# Altium footprint library XTAL-SMD2520.PcbLib: 1 footprints
Each footprint in its own frame and in the unit in brackets; x right, y up, seen from the top. Pads: shape width x height; smd on the part's side, far side on the other; paste and mask are expansions set on the pad; w line width, h text height; cw(c..) or ccw(c..) is an arc to the next point about the centre after c.
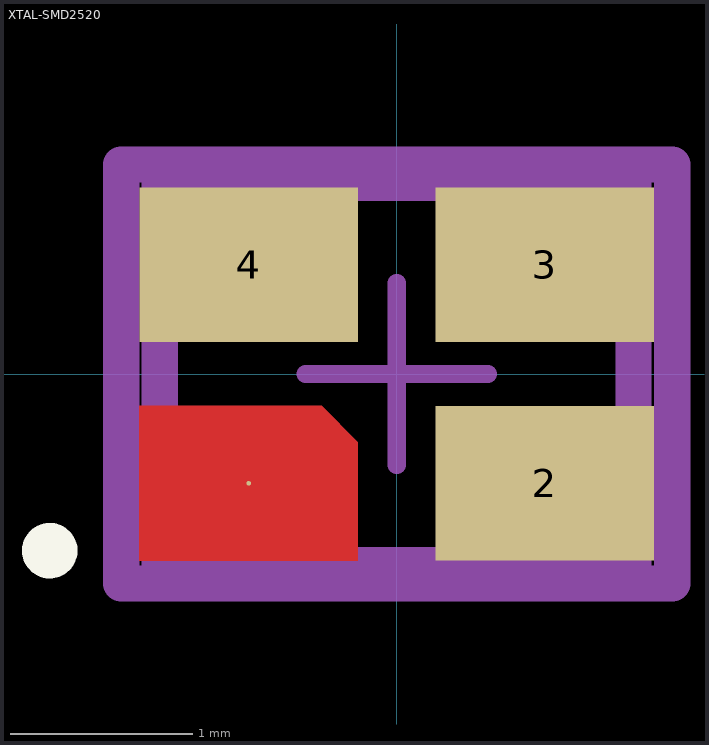
[diagram p0: the footprint, top view; thin cyan lines are the x and y axes]

## XTAL-SMD2520 [mm]
pads (4):
  round 0.025 smd paste+0 mask+0: 1(-0.813,-0.6)
  rect 1.2x0.85 smd paste+0 mask+0: 2(0.813,-0.6) 3(0.813,0.6) 4(-0.813,0.6)
Top Layer:
  region: -1.413,-1.025 -1.413,-0.175 -0.413,-0.175 -0.212,-0.375 -0.212,-1.025
Top Overlay:
  circle w0.152: c-1.905,-0.97 r0.076
Top Assembly:
  lines w0.2: -1.512,-1.15 1.512,-1.15 1.512,1.15 -1.512,1.15 -1.512,-1.15
Top 3D Body:
  lines w0.2: -1.3,-1.05 1.3,-1.05 1.3,1.05 -1.3,1.05 -1.3,-1.05
Top Courtyard:
  lines w0.2: -1.512,-1.15 1.512,-1.15 1.512,1.15 -1.512,1.15 -1.512,-1.15
Top Component Center:
  lines w0.1: -0.5,0 0.5,0 ; 0,-0.5 0,0.5
3D body "2520 SMD Crystal Oscillator.STEP": height 0.65, standoff -0.05, extent -1.25,-1 1.25,1